# EAGLE library part TM1650 (library TM1650)
TM1650 LED Driver and keyboard Check availability <https://pricing.snapeda.com/parts/TM1650/tm/view-part?ref=eda>
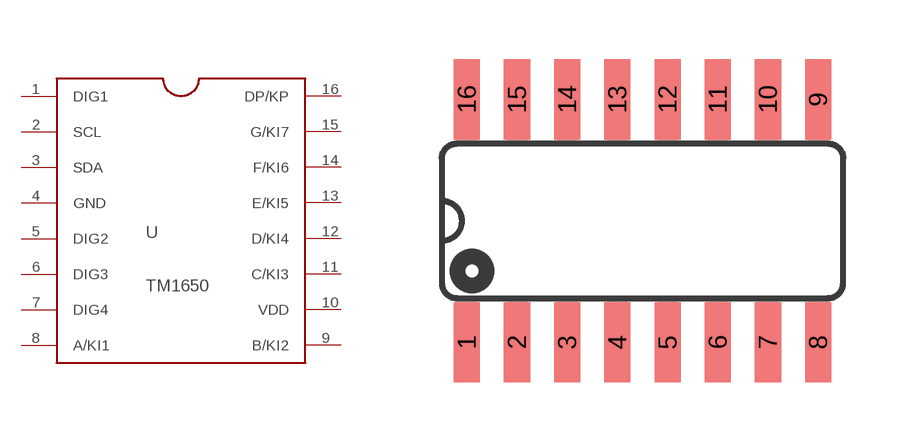
[diagram p0: symbol with the pads of SOP-16; footprint SOP-16]

Designator prefix U

## TM1650 (Availability: Not in stock; MF: tm; MP: TM1650; Package: None; Price: None)  [SOP-16]
1  DIG1
2  SCL
3  SDA
4  GND
5  DIG2
6  DIG3
7  DIG4
8  A/KI1
9  B/KI2
10  VDD
11  C/KI3
12  D/KI4
13  E/KI5
14  F/KI6
15  G/KI7
16  DP/KP

## Footprint SOP-16 (pad centres in mm)
PAM8403 Filterless 3W Class-D Stereo Audio Amplifier - Power Analog Micoelectronics
smd 0.66 x 2.032: 1 1.905,-0.533; 2 3.175,-0.533; 3 4.445,-0.533; 4 5.715,-0.533; 5 6.985,-0.533; 6 8.255,-0.533; 7 9.525,-0.533; 8 10.795,-0.533; 9 10.795,5.613; 10 9.525,5.613; 11 8.255,5.613; 12 6.985,5.613; 13 5.715,5.613; 14 4.445,5.613; 15 3.175,5.613; 16 1.905,5.613